# EAGLE library part DMMT3904W (library !synth_sch)
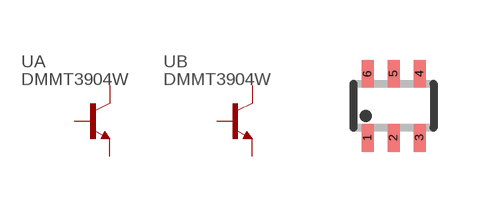
[diagram p3: symbol with the pads of SOT363; footprint SOT363]

Designator prefix -; gates A=NPN_BJT B=NPN_BJT

## DMMT3904W  [SOT363]
1  A:B  pas
2  B:B  pas
3  B:C  pas
4  B:E  pas
5  A:E  pas
6  A:C  pas

## Footprint SOT363 (pad centres in mm)
smd 0.3 x 0.7: 1 -0.65,-0.8; 2 0,-0.8; 3 0.65,-0.8; 4 0.65,0.8; 5 0,0.8; 6 -0.65,0.8